# Altium schematic symbol library Schlib1.SchLib: 11 symbols
Pins are listed as number, name and electrical type; pins without a type are passive.

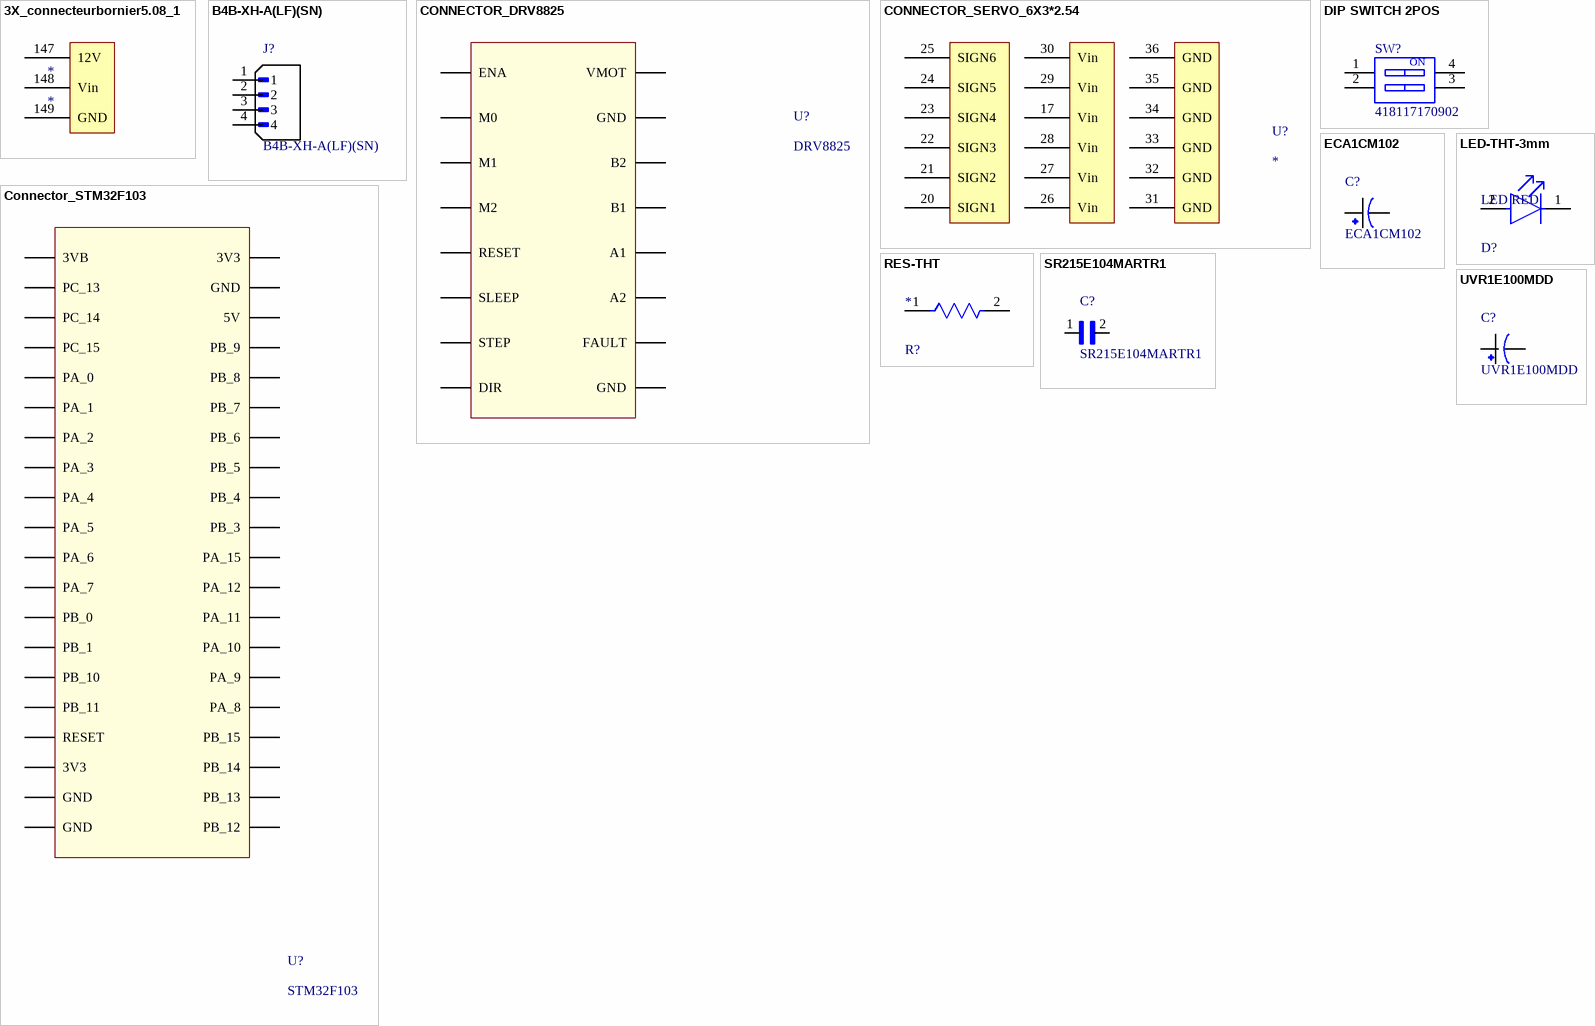
[diagram p0: symbols 3X_connecteurbornier5.08_1 to UVR1E100MDD]

## 3X_connecteurbornier5.08_1
designator *
footprint 3X_connecteur_bornier_5.08
pins: 147 12V, 148 Vin, 149 GND

## B4B-XH-A(LF)(SN)
designator J?
HEADER, VERTICAL, 4WAY; Pitch Spacing: 2.5mm; No. of Contacts: 4Contacts; Gender: Header; Product Range: XH Series; Contact Termination Type: Through Hole; No. of Rows: 1Rows; Contact Plating: Tin Plated Contacts; Contact Material: Brass; SVHC: No SVHC (17-Dec-2015); Contact Resistance: 10mohm; Current Rating: 3A; Insulation Resistance: 1000Mohm; Operating Temperature Max: 85Â°C; Operating Temperature Min: -25Â°C; Voltage Rating VAC: 250V; Wire Size AWG Max: 22AWG; Wire Size AWG Min: 30AWG; Withstand Voltage: 1000V; MF: JST; Package: None; Price: None; SnapEDA_Link: https://www.snapeda.com/parts/B4B-XH-A%20%20(LF)(SN)/JST/view-part/?ref=snap; MP: B4B-XH-A  (LF)(SN); Availability: In Stock; Check_prices: https://www.snapeda.com/parts/B4B-XH-A%20%20(LF)(SN)/JST/view-part/?ref=eda; Value: *
footprint *JST_B4B-XH-A(LF)(SN)
pins: 1, 2, 3, 4

## CONNECTOR_DRV8825
designator U?, comment DRV8825
footprint CONNECTOR_DRV8825
pins: 20 GND, 21 FAULT, 22 A2, 23 A1, 24 B1, 25 B2, 26 GND, 27 VMOT, 28 DIR, 29 STEP, 30 SLEEP, 31 RESET, 32 M2, 33 M1, 34 M0, 35 ENA

## CONNECTOR_SERVO_6X3*2.54
designator U?
footprint CONNECTOR_SERVO_6X3*2.54
pins: 17 Vin, 20 SIGN1, 21 SIGN2, 22 SIGN3, 23 SIGN4, 24 SIGN5, 25 SIGN6, 26 Vin, 27 Vin, 28 Vin, 29 Vin, 30 Vin, 31 GND, 32 GND, 33 GND, 34 GND, 35 GND, 36 GND

## Connector_STM32F103
designator U?, comment STM32F103
footprint Connector_STM32F103
pins: 105 3V3, 106 GND, 107 5V, 108 PB_9, 109 PB_8, 110 PB_7, 111 PB_6, 112 PB_5, 113 PB_4, 114 PB_3, 115 PA_15, 116 PA_12, 117 PA_11, 118 PA_10, 119 PA_9, 120 PA_8, 121 PB_15, 122 PB_14, 123 PB_13, 124 PB_12, 126 3VB, 127 PC_13, 128 PC_14, 129 PC_15, 130 PA_0, 131 PA_1, 132 PA_2, 133 PA_3, 134 PA_4, 135 PA_5, 136 PA_6, 137 PA_7, 138 PB_0, 139 PB_1, 140 PB_10, 141 PB_11, 142 RESET, 143 3V3, 144 GND, 145 GND

## DIP SWITCH 2POS
designator SW?, comment 418117170902
Dip Switch, 0.025A, 24Vdc, 2 Pos, Tht Rohs Compliant: Yes |Wurth Elektronik 418117170902; Insulation Resistance: 100MΩ; Current Rating: 25mA; Voltage Rating (DC): 24V; Washable: No; Electrical Life: 2kcycles; Throw Configuration: SPST; Body Material: PBT, Polybutylene; Number of Positions: 2; Pitch: 2.54mm; Contact Plating: Gold; Voltage Rating: 24V; Min Operating Temperature: -40°C; Termination: PC Pin; RoHS: Compliant; Mechanical Life: 2kcycles; Length: 6.08mm; Max Operating Temperature: 85°C
footprint DIP-SWITCH-2POS
pins: 1, 2, 3, 4
text: ON

## ECA1CM102
designator C?
1000ÂµF 16V Aluminum Electrolytic Capacitors Radial, Can 2000 Hrs @ 85Â°C; MF: Panasonic; Package: RADIAL-2 Panasonic; Price: None; SnapEDA_Link: https://www.snapeda.com/parts/ECA1CM102/Panasonic/view-part/?ref=snap; MP: ECA1CM102; Availability: In Stock; Check_prices: https://www.snapeda.com/parts/ECA1CM102/Panasonic/view-part/?ref=eda; Value: *
footprint *CAPPRD500W60D1000H1600_ECA1CM102(Primary)
pins: N, P

## LED-THT-3mm
designator D?, comment LED RED
NexarPartId: 18785862; Power Rating: 160mW; Rise Time: 15ns; Peak Wavelength: 940nm; Lens Style: Circular, Diffused, Round; Reverse Voltage: 5V; Viewing Angle: 44°; Forward Current: 100mA; Number of Elements: 1; Forward Voltage: 1.35V; Length: 3.2mm; Min Operating Temperature: -25°C; Radiation Hardening: No; Power Dissipation: 160mW; Lead Free: Lead Free; Orientation: Top View; Case/Package: T; Max Power Dissipation: 160mW; Max Operating Temperature: 85°C; Fall Time: 15ns; Number of Pins: 2; Test Current: 100mA; RoHS: Compliant; REACH SVHC: Unknown; Mount: Through Hole; Number of LEDs: 1; Wavelength: 940nm; Packaging: Bulk; Depth: 3.2mm
footprint LED-THT-3mm
pins: 1 C, 2 A

## RES-THT
designator R?
Through Hole Resistor; NexarPartId: 43762971; Temperature Coefficient: 50ppm/°C; Tolerance: 1%; Voltage Rating: 200V; Power Rating: 50mW; Lead Diameter: 410µm; Termination: Axial; Number of Terminations: 2; Max Operating Temperature: 175°C; Case/Package: Axial; Height: 2.03mm; Radiation Hardening: No; Mount: Through Hole; Diameter: 1.65mm; Length: 3.81mm; Width: 1.651mm; RoHS: Non-Compliant; Max Power Dissipation: 50mW; Features: Flame Retardant Coating, Military; Composition: Metal Film; Contact Plating: Lead, Tin; Packaging: Bulk; Military Standard: MIL-R-10509; Lead Free: Contains Lead; Min Operating Temperature: -65°C
footprint RES-THT
pins: 1, 2

## SR215E104MARTR1
designator C?
SR Series 5.08x5.08 mm 100 nF 50 V Â±20% Tol. Z5U Radial Lead/SkyCapÂ®; MF: AVX; Package: Radial AVX Interconnect / Elco; Price: None; SnapEDA_Link: https://www.snapeda.com/parts/SR215E104MARTR1/AVX/view-part/?ref=snap; MP: SR215E104MARTR1; Availability: In Stock; Check_prices: https://www.snapeda.com/parts/SR215E104MARTR1/AVX/view-part/?ref=eda; Value: *
footprint *CAPRR508W50L508T317H508
pins: 1, 2

## UVR1E100MDD
designator C?
10 ÂµF 25 V Aluminum Electrolytic Capacitors Radial, Can - 2000 Hrs @ 85Â°C; MF: Nichicon; Package: RADIAL-2 NICHICON; Price: None; SnapEDA_Link: https://www.snapeda.com/parts/UVR1E100MDD/Nichicon/view-part/?ref=snap; MP: UVR1E100MDD; Availability: In Stock; Check_prices: https://www.snapeda.com/parts/UVR1E100MDD/Nichicon/view-part/?ref=eda; Value: *
footprint *CAPPRD200W50D550H1250
pins: 1, 2